# Altium footprint library TSOP.PcbLib: 8 footprints
Each footprint in its own frame and in the unit in brackets; x right, y up, seen from the top. Pads: shape width x height; smd on the part's side, far side on the other; paste and mask are expansions set on the pad; w line width, h text height; cw(c..) or ccw(c..) is an arc to the next point about the centre after c.
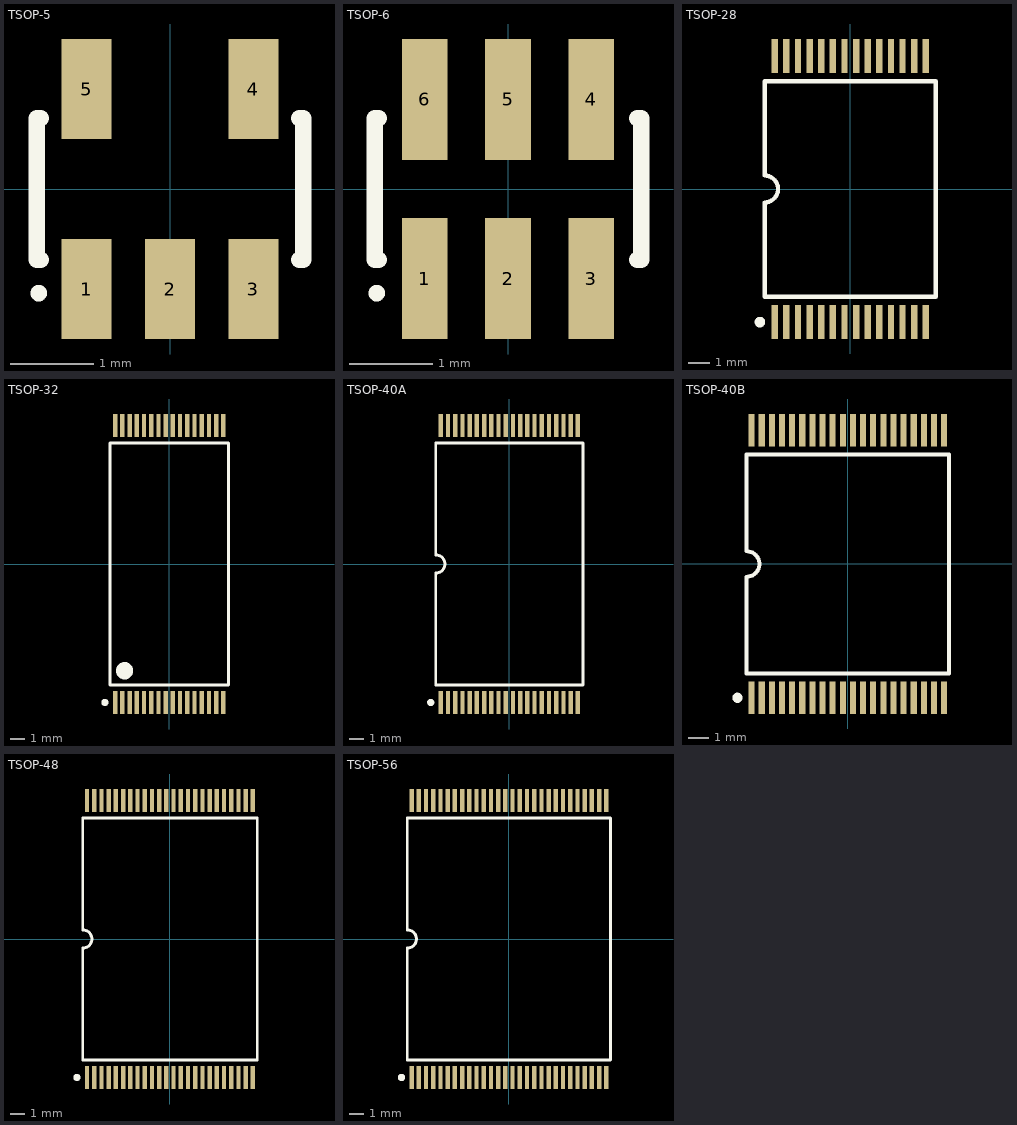
[diagram p0: the footprints below, top view; thin cyan lines are the x and y axes]

## TSOP-5 [mm]
pads (5):
  rect 0.6x1.2 smd: 1(-1,-1.2) 2(0,-1.2) 3(1,-1.2) 4(1,1.2) 5(-1,1.2)
Top Overlay:
  circle w0.1: c-1.575,-1.25 r0.05
  lines w0.2: -1.55,-0.85 -1.6,-0.85 -1.6,0.85 -1.55,0.85 ; 1.55,-0.85 1.6,-0.85 1.6,0.85 1.55,0.85

## TSOP-6 [mm] "SOT-457/SC-74; 6 Leads; Body 3.1 x 3 mm, inc. leads (LxW max)"
height 1.1
pads (6):
  rect 0.55x1.45 smd: 1(-1,-1.075) 2(0,-1.075) 3(1,-1.075) 4(1,1.075) 5(0,1.075) 6(-1,1.075)
Top Overlay:
  circle w0.1: c-1.575,-1.25 r0.05
  lines w0.2: -1.55,-0.85 -1.6,-0.85 -1.6,0.85 -1.55,0.85 ; 1.55,-0.85 1.6,-0.85 1.6,0.85 1.55,0.85

## TSOP-28 [mm] "Shrink Small Outline, Plastic, Thin; 28 Leads; Body Width 11.8 mm; Pitch 0.55 mm"
height 1.2
pads (28):
  rect 0.3x1.6 smd: 1(0.275,-6.3) 2(0.825,-6.3) 3(1.375,-6.3) 4(1.925,-6.3) 5(2.475,-6.3) 6(3.025,-6.3) 7(3.575,-6.3) 8(3.575,6.3) 9(3.025,6.3) 10(2.475,6.3) 11(1.925,6.3) 12(1.375,6.3) 13(0.825,6.3) 14(0.275,6.3) 15(-0.275,6.3) 16(-0.825,6.3) 17(-1.375,6.3) 18(-1.925,6.3) 19(-2.475,6.3) 20(-3.025,6.3) 21(-3.575,6.3) 22(-3.575,-6.3) 23(-3.025,-6.3) 24(-2.475,-6.3) 25(-1.925,-6.3) 26(-1.375,-6.3) 27(-0.825,-6.3) 28(-0.275,-6.3)
Top Overlay:
  circle w0.25: c-4.275,-6.3 r0.125
  lines w0.2: -4.05,-5.1 -4.05,-0.635 ccw(c-4.05,0) -4.05,0.635 -4.05,5.1 4.05,5.1 4.05,-5.1 -4.05,-5.1

## TSOP-32 [mm] "Shrink Small Outline, Plastic, Thin; 32 Leads; Body Width 18.4 mm; Pitch 0.5 mm"
height 1.2
pads (32):
  rect 0.3x1.6 smd: 1(-3.75,-9.6) 2(-3.25,-9.6) 3(-2.75,-9.6) 4(-2.25,-9.6) 5(-1.75,-9.6) 6(-1.25,-9.6) 7(-0.75,-9.6) 8(-0.25,-9.6) 9(0.25,-9.6) 10(0.75,-9.6) 11(1.25,-9.6) 12(1.75,-9.6) 13(2.25,-9.6) 14(2.75,-9.6) 15(3.25,-9.6) 16(3.75,-9.6) 17(3.75,9.6) 18(3.25,9.6) 19(2.75,9.6) 20(2.25,9.6) 21(1.75,9.6) 22(1.25,9.6) 23(0.75,9.6) 24(0.25,9.6) 25(-0.25,9.6) 26(-0.75,9.6) 27(-1.25,9.6) 28(-1.75,9.6) 29(-2.25,9.6) 30(-2.75,9.6) 31(-3.25,9.6) 32(-3.75,9.6)
Top Overlay:
  circle w0.6: c-3.1,-7.4 r0.3
  circle w0.25: c-4.46,-9.6 r0.125
  lines w0.2: -4.1,-8.4 4.1,-8.4 4.1,8.4 -4.1,8.4 -4.1,-0.635 -4.1,-8.4

## TSOP-40A [mm] "Shrink Small Outline, Plastic, Thin; 40 Leads; Body Width 18.4 mm; Pitch 0.5 mm"
height 1.2
pads (40):
  rect 0.3x1.6 smd: 1(-4.75,-9.6) 2(-4.25,-9.6) 3(-3.75,-9.6) 4(-3.25,-9.6) 5(-2.75,-9.6) 6(-2.25,-9.6) 7(-1.75,-9.6) 8(-1.25,-9.6) 9(-0.75,-9.6) 10(-0.25,-9.6) 11(0.25,-9.6) 12(0.75,-9.6) 13(1.25,-9.6) 14(1.75,-9.6) 15(2.25,-9.6) 16(2.75,-9.6) 17(3.25,-9.6) 18(3.75,-9.6) 19(4.25,-9.6) 20(4.75,-9.6) 21(4.75,9.6) 22(4.25,9.6) 23(3.75,9.6) 24(3.25,9.6) 25(2.75,9.6) 26(2.25,9.6) 27(1.75,9.6) 28(1.25,9.6) 29(0.75,9.6) 30(0.25,9.6) 31(-0.25,9.6) 32(-0.75,9.6) 33(-1.25,9.6) 34(-1.75,9.6) 35(-2.25,9.6) 36(-2.75,9.6) 37(-3.25,9.6) 38(-3.75,9.6) 39(-4.25,9.6) 40(-4.75,9.6)
Top Overlay:
  circle w0.25: c-5.45,-9.6 r0.125
  lines w0.2: -5.1,-8.4 5.1,-8.4 5.1,8.4 -5.1,8.4 -5.1,0.635 cw(c-5.1,0) -5.1,-0.635 -5.1,-8.4

## TSOP-40B [mm] "Shrink Small Outline, Plastic, Thin; 40 Leads; Body Width 12.4 mm; Pitch 0.5 mm"
height 1.2
pads (40):
  rect 0.3x1.6 smd: 1(-4.75,-6.6) 2(-4.25,-6.6) 3(-3.75,-6.6) 4(-3.25,-6.6) 5(-2.75,-6.6) 6(-2.25,-6.6) 7(-1.75,-6.6) 8(-1.25,-6.6) 9(-0.75,-6.6) 10(-0.25,-6.6) 11(0.25,-6.6) 12(0.75,-6.6) 13(1.25,-6.6) 14(1.75,-6.6) 15(2.25,-6.6) 16(2.75,-6.6) 17(3.25,-6.6) 18(3.75,-6.6) 19(4.25,-6.6) 20(4.75,-6.6) 21(4.75,6.6) 22(4.25,6.6) 23(3.75,6.6) 24(3.25,6.6) 25(2.75,6.6) 26(2.25,6.6) 27(1.75,6.6) 28(1.25,6.6) 29(0.75,6.6) 30(0.25,6.6) 31(-0.25,6.6) 32(-0.75,6.6) 33(-1.25,6.6) 34(-1.75,6.6) 35(-2.25,6.6) 36(-2.75,6.6) 37(-3.25,6.6) 38(-3.75,6.6) 39(-4.25,6.6) 40(-4.75,6.6)
Top Overlay:
  circle w0.25: c-5.45,-6.6 r0.125
  lines w0.2: -5,-5.4 5,-5.4 5,5.4 -5,5.4 -5,0.635 cw(c-5,0) -5,-0.635 -5,-5.4

## TSOP-48 [mm] "Shrink Small Outline, Plastic, Thin; 48 Leads; Body Width 18.4 mm; Pitch 0.5 mm"
height 1.2
pads (48):
  rect 0.3x1.6 smd: 1(-5.75,-9.6) 2(-5.25,-9.6) 3(-4.75,-9.6) 4(-4.25,-9.6) 5(-3.75,-9.6) 6(-3.25,-9.6) 7(-2.75,-9.6) 8(-2.25,-9.6) 9(-1.75,-9.6) 10(-1.25,-9.6) 11(-0.75,-9.6) 12(-0.25,-9.6) 13(0.25,-9.6) 14(0.75,-9.6) 15(1.25,-9.6) 16(1.75,-9.6) 17(2.25,-9.6) 18(2.75,-9.6) 19(3.25,-9.6) 20(3.75,-9.6) 21(4.25,-9.6) 22(4.75,-9.6) 23(5.25,-9.6) 24(5.75,-9.6) 25(5.75,9.6) 26(5.25,9.6) 27(4.75,9.6) 28(4.25,9.6) 29(3.75,9.6) 30(3.25,9.6) 31(2.75,9.6) 32(2.25,9.6) 33(1.75,9.6) 34(1.25,9.6) 35(0.75,9.6) 36(0.25,9.6) 37(-0.25,9.6) 38(-0.75,9.6) 39(-1.25,9.6) 40(-1.75,9.6) 41(-2.25,9.6) 42(-2.75,9.6) 43(-3.25,9.6) 44(-3.75,9.6) 45(-4.25,9.6) 46(-4.75,9.6) 47(-5.25,9.6) 48(-5.75,9.6)
Top Overlay:
  circle w0.25: c-6.45,-9.6 r0.125
  lines w0.2: -6.05,-8.4 -6.05,-0.635 ccw(c-6.05,0) -6.05,0.635 -6.05,8.4 6.05,8.4 6.05,-8.4 -6.05,-8.4

## TSOP-56 [mm] "Shrink Small Outline, Plastic, Thin; 56 Leads; Body Width 18.4 mm; Pitch 0.5 mm"
height 1.2
pads (56):
  rect 0.3x1.6 smd: 1(-6.75,-9.6) 2(-6.25,-9.6) 3(-5.75,-9.6) 4(-5.25,-9.6) 5(-4.75,-9.6) 6(-4.25,-9.6) 7(-3.75,-9.6) 8(-3.25,-9.6) 9(-2.75,-9.6) 10(-2.25,-9.6) 11(-1.75,-9.6) 12(-1.25,-9.6) 13(-0.75,-9.6) 14(-0.25,-9.6) 15(0.25,-9.6) 16(0.75,-9.6) 17(1.25,-9.6) 18(1.75,-9.6) 19(2.25,-9.6) 20(2.75,-9.6) 21(3.25,-9.6) 22(3.75,-9.6) 23(4.25,-9.6) 24(4.75,-9.6) 25(5.25,-9.6) 26(5.75,-9.6) 27(6.25,-9.6) 28(6.75,-9.6) 29(6.75,9.6) 30(6.25,9.6) 31(5.75,9.6) 32(5.25,9.6) 33(4.75,9.6) 34(4.25,9.6) 35(3.75,9.6) 36(3.25,9.6) 37(2.75,9.6) 38(2.25,9.6) 39(1.75,9.6) 40(1.25,9.6) 41(0.75,9.6) 42(0.25,9.6) 43(-0.25,9.6) 44(-0.75,9.6) 45(-1.25,9.6) 46(-1.75,9.6) 47(-2.25,9.6) 48(-2.75,9.6) 49(-3.25,9.6) 50(-3.75,9.6) 51(-4.25,9.6) 52(-4.75,9.6) 53(-5.25,9.6) 54(-5.75,9.6) 55(-6.25,9.6) 56(-6.75,9.6)
Top Overlay:
  circle w0.25: c-7.45,-9.6 r0.125
  lines w0.2: -7.05,-8.4 -7.05,-0.635 ccw(c-7.05,0) -7.05,0.635 -7.05,8.4 7.05,8.4 7.05,-8.4 -7.05,-8.4